# Altium footprint library IMR_LIB_PCB.PcbLib: 119 footprints (part 3 of 8)
Each footprint in its own frame and in the unit in brackets; x right, y up, seen from the top. Pads: shape width x height; smd on the part's side, far side on the other; paste and mask are expansions set on the pad; w line width, h text height; cw(c..) or ccw(c..) is an arc to the next point about the centre after c.
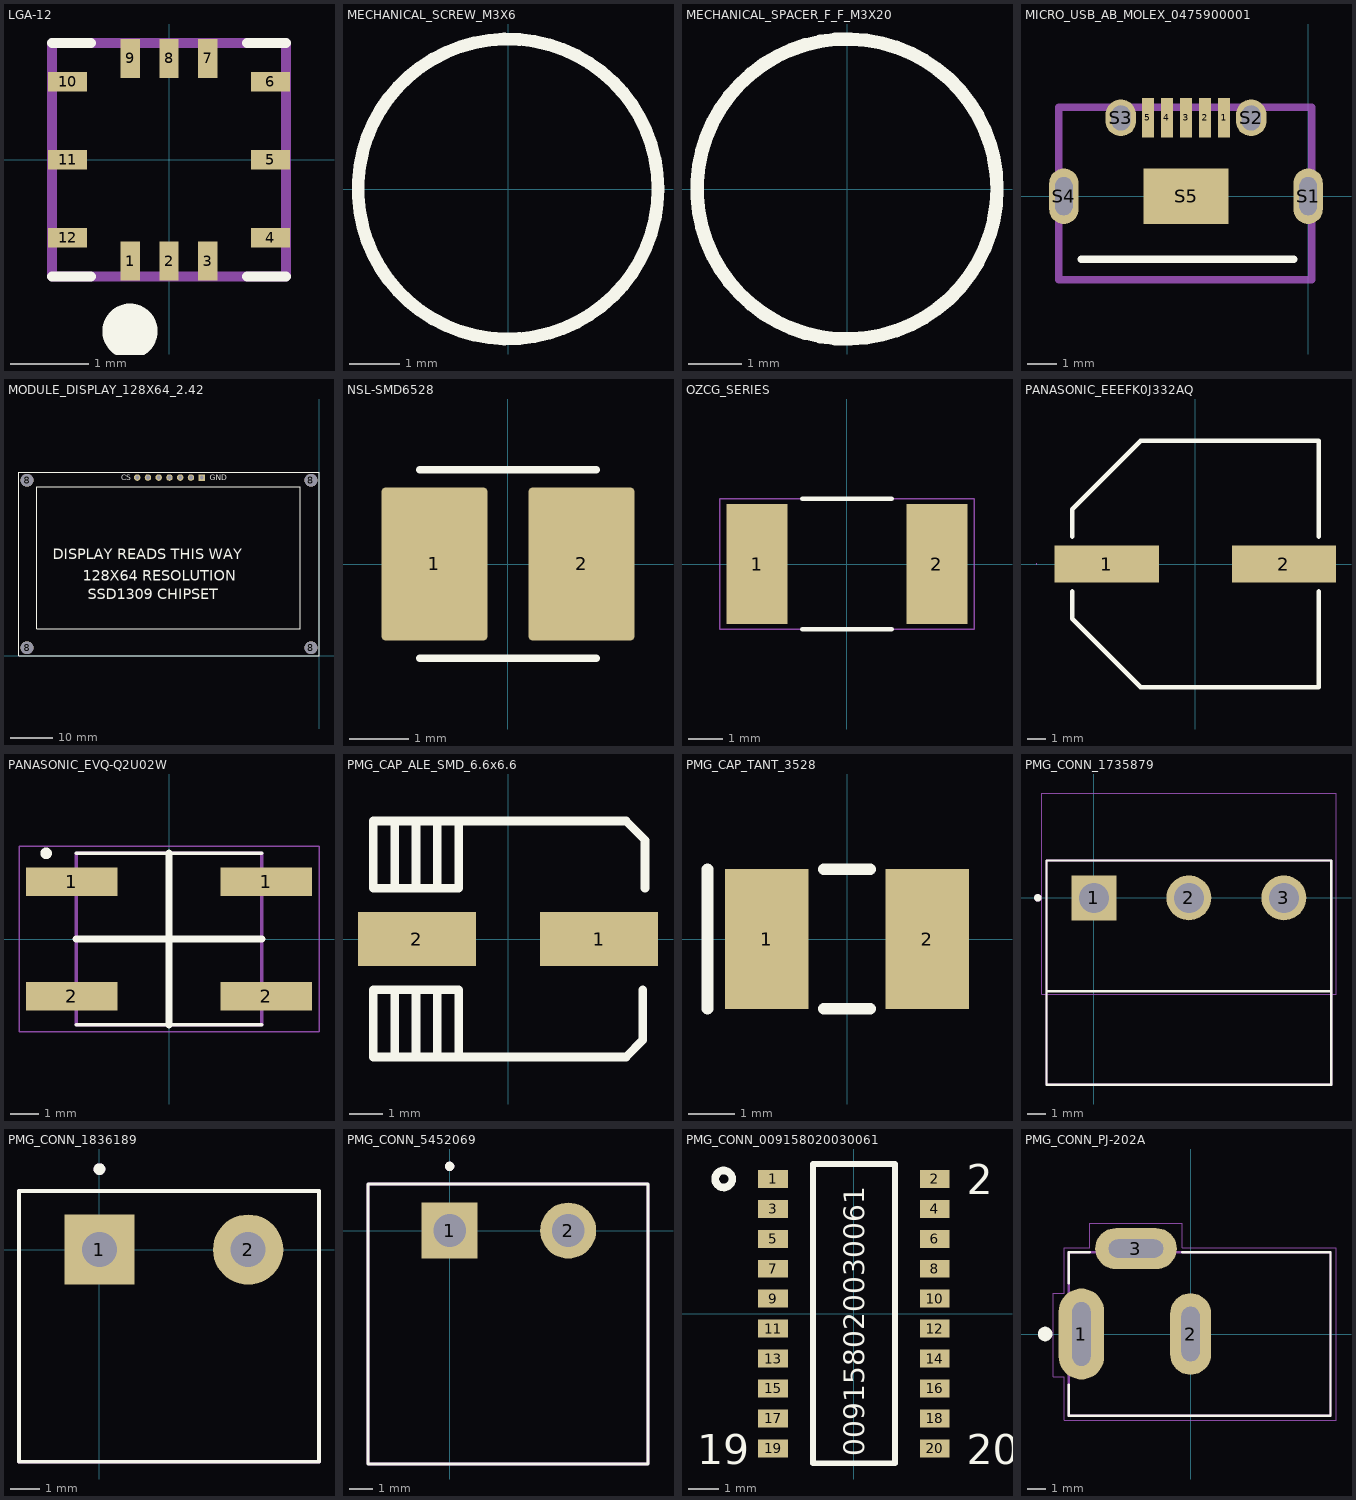
[diagram p2: the footprints below, top view; thin cyan lines are the x and y axes]

## LGA-12 [mm] "RENESAS ZMOD4510 12-LGA PACKAGE"
height 0.77
pads (12):
  rect 0.25x0.5 smd: 1(-0.5,-1.3) 2(0,-1.3) 3(0.5,-1.3) 7(0.5,1.3) 8(0,1.3) 9(-0.5,1.3)
  rect 0.5x0.25 smd: 4(1.3,-1) 5(1.3,0) 6(1.3,1) 10(-1.3,1) 11(-1.3,0) 12(-1.3,-1)
Top Overlay:
  circle w0.508: c-0.5,-2.2 r0.1
  lines w0.127: -1.5,-1.5 -1,-1.5 ; -1.5,1.5 -1,1.5 ; 1,-1.5 1.5,-1.5 ; 1,1.5 1.5,1.5
3D Top:
  lines w0.127: -1.5,-1.5 -1.5,1.5 1.5,1.5 1.5,-1.5 -1.5,-1.5
3D body: height 0.64, standoff 0.13, extent -1.4,-1.4 1.4,1.4
3D body: height 0.13, standoff 0, extent -1.5,-1.5 1.5,1.5

## MECHANICAL_SCREW_M3X6 [mm] "M3X6 PAN HEAD SCREW - WIDTH 5.5mm"
height 8
Top Overlay:
  circle w0.254: c0,0 r3
3D body: height 1.8, standoff -6, extent -2.65,-2.65 2.65,2.65

## MECHANICAL_SPACER_F_F_M3X20 [mm] "M3X20 SPACER FEMALE TO FEMALE MAX WIDTH 5.2mm"
height 20
Top Overlay:
  circle w0.254: c0,0 r2.828
3D body: height 20.1, standoff 0.1, extent -2.75,-3.16 2.75,3.16

## MICRO_USB_AB_MOLEX_0475900001 [mm] "MICRO USB AB MOLEX 0475900001"
height 0.6
pads (10):
  rect 0.4x1.35 smd: 1(-2.875,2.675) 2(-3.525,2.675) 3(-4.175,2.675) 4(-4.825,2.675) 5(-5.475,2.675)
  oval 1x1.9 hole 0.6 slot 1.3 at 90 deg: S1(0,0) S4(-8.35,0)
  oval 1.05x1.25 hole 0.65 slot 0.85 at 90 deg: S2(-1.95,2.675) S3(-6.4,2.675)
  rect 2.9x1.9 smd: S5(-4.175,0)
Top Overlay:
  lines w0.254: -7.75,-2.15 -0.5,-2.15
Courtyard Top:
  lines w0.254: -8.525,-2.859 0.125,-2.859 0.125,3.034 -8.525,3.034 -8.525,-2.859
3D body: height 2.76, standoff -0.55, extent -8.5,-2.947 0.15,2.947

## MODULE_DISPLAY_128X64_2.42 [mil] "DISPLAY"
height 150
pads (11):
  rect 60x60 hole 35: 1(-1091.34,1658.66)
  round 60 hole 35: 2(-1191.34,1658.66) 3(-1291.34,1658.66) 4(-1391.34,1658.66) 5(-1491.34,1658.66) 6(-1591.34,1658.66) 7(-1691.34,1658.66)
  round 120 hole 120 unplated: 8(-2716.34,75) 8(-2716.34,1633.66) 8(-75,75) 8(-75,1633.66)
Top Overlay:
  lines w10: -2791.34,0 0,0 0,1708.66 -2791.34,1708.66 -2791.34,0 ; -2625,250 -175,250 -175,1575 -2625,1575 -2625,250
  text "CS" at -1841.34,1633.66 h50
  text "GND" at -1016.34,1633.66 h50
  text "DISPLAY READS THIS WAY" at -2475,900 h100
  text "128X64 RESOLUTION" at -2200,700 h100
  text "SSD1309 CHIPSET" at -2150,525 h100
3D body: height 65, standoff 0, extent -2791.34,0 0,1708.66
3D body: height 165, standoff 65, extent -2625,50 -175,1575
3D body: height 166, standoff 165, extent -2600,250 -200,1550

## NSL-SMD6528 [mm] "Advanced Photonix NSL-SMD6528"
height 0.7
pads (2):
  rrect7% 1.8x2.6 smd: 1(-1.25,0) 2(1.25,0)
Top Overlay:
  lines w0.127: -1.5,-1.6 1.5,-1.6 ; -1.5,1.6 1.5,1.6
3D body: height 1, standoff 0, extent -1.26,-1.26 1.26,1.26
3D body: height 1, standoff 0, extent 1.26,-1.26 1.89,1.26
3D body: height 1, standoff 0, extent -1.89,-1.26 -1.26,1.26

## OZCG_SERIES [mm] "OZCG PTC IN SM 1812 PACKAGE"
height 0.3
pads (2):
  rect 1.78x3.5 smd: 1(-2.615,0) 2(2.615,0)
Top Overlay:
  lines w0.127: -1.3,-1.9 1.3,-1.9 ; -1.3,1.9 1.3,1.9
Courtyard Top:
  lines w0.05: -3.7,-1.9 -3.7,1.9 3.7,1.9 3.7,-1.9 -3.7,-1.9
3D body: height 0.9, standoff 0, extent -2.25,-1.6 2.25,1.6

## PANASONIC_EEEFK0J332AQ [mm] "SMD 14.00mm Height"
height 14
pads (2):
  rect 5.7x2 smd: 1(-4.85,0) 2(4.85,0)
Top Overlay:
  lines w0.254: -6.75,-1.505 -6.75,-3 -3,-6.75 6.75,-6.75 6.75,-1.505 ; -6.75,1.505 -6.75,3 ; 6.75,1.505 6.75,6.75 -3,6.75 ; -6.75,3 -3,6.75 ; -6.75,3 -3,6.75
Mechanical 22:
  lines w0.05: -8.725,0 cw(c-8.7,0) -8.675,0 cw(c-8.7,0) -8.725,0
  lines w0.2: -6.75,-3 -3,-6.75 6.75,-6.75 6.75,-3 ; -6.75,3 -3,6.75 6.75,6.75 6.75,3
3D body: height 13.5, standoff 0, extent -7.45,-6.75 7.45,6.75

## PANASONIC_EVQ-Q2U02W [mm] "SWITCH"
height 2.25
pads (4):
  rect 3.2x1 smd: 1(-3.4,2) 1(3.4,2) 2(-3.4,-2) 2(3.4,-2)
Top Overlay:
  circle w0.2: c-4.3,3 r0.1
  lines w0.127: -3.25,-3 3.25,-3 ; -3.25,3 3.25,3
  lines w0.254: -3.25,0 3.25,0 ; 0,-3 0,3
3D Top:
  lines w0.127: -3.25,-3 -3.25,3 3.25,3 3.25,-3 -3.25,-3
Courtyard Top:
  lines w0.05: -5.25,-3.25 -5.25,3.25 5.25,3.25 5.25,-3.25 -5.25,-3.25
3D body: height 1.8, standoff 0, extent -3.25,-3 3.25,3
3D body: height 2.3, standoff 1.8, extent -1.9,-1.897 1.9,1.897

## PMG_CAP_ALE_SMD_6.6x6.6 [mm] "CAP_ALE BODY SIZE 6.6mm x 6.6mm 3.9mm Tall"
height 4
pads (2):
  rect 3.5x1.6 smd: 1(2.7,0) 2(-2.7,0)
Top Overlay:
  lines w0.254: -4,-2.04 -4,-1.913 ; -4,1.913 -4,2.04 ; -3.365,-3.5 -3.365,-1.5 ; -3.365,1.5 -3.365,3.5 ; -2.73,-3.5 -2.73,-1.5 ; -2.73,1.5 -2.73,3.5 ; -2.095,-3.5 -2.095,-1.5 ; -2.095,1.5 -2.095,3.5 ; -1.46,-3.5 -1.46,-1.5 -4,-1.5 -4,-3.5 3.5,-3.5 4,-3 4,-1.5 ; -1.46,3.5 -1.46,1.5 -4,1.5 -4,3.5 3.5,3.5 4.065,2.935 4.065,1.5
3D body: height 3.91, standoff 0, extent -3.52,-3.3 3.48,3.3

## PMG_CAP_TANT_3528 [mm] "TANTALUM CAPACITOR 3528"
height 1.9
pads (2):
  rect 1.8x3 smd: 1(-1.725,0) 2(1.725,0)
Top Overlay:
  lines w0.254: -3,-1.5 -3,1.5 ; -0.5,-1.5 0.5,-1.5 ; -0.5,1.5 0.5,1.5
3D body: height 2.03, standoff 0, extent -1.85,-1.465 1.85,1.465

## PMG_CONN_1735879 [mm] "TERM BLOCK HDR 3POS 90DEG 5.08MM"
height 12.45
pads (3):
  rect 2.4x2.4 hole 1.6: 1(0,0)
  round 2.4 hole 1.6: 2(5.08,0) 3(10.16,0)
Top Overlay:
  circle w0.2: c-3,0 r0.1
  lines w0.127: -2.54,-5 12.7,-5 ; -2.54,-10 -2.54,2 12.7,2 12.7,-10 -2.54,-10
3D Top:
  circle w0.2: c-3,0 r0.1
  lines w0.127: -2.54,-10 -2.54,2 12.7,2 12.7,-10 -2.54,-10
Courtyard Top:
  lines w0.05: -2.79,-5.15 12.95,-5.15 12.95,5.6 -2.79,5.6 -2.79,-5.15
3D body: height 12.4, standoff -3.5, extent -2.54,-10.001 12.7,2.001

## PMG_CONN_1836189 [mm] "TERM BLOCK HDR 3POS 90DEG 5.08MM GREEN"
height 7.25
pads (2):
  rect 2.4x2.4 hole 1.2: 1(0,0)
  round 2.4 hole 1.2: 2(5.08,0)
Top Overlay:
  circle w0.2: c0,2.75 r0.1
  lines w0.127: -2.75,-7.25 7.5,-7.25 7.5,2 -2.75,2 -2.75,-7.25
3D Top:
  circle w0.2: c0,2.75 r0.1
  lines w0.127: -2.75,-7.25 7.5,-7.25 7.5,2 -2.75,2 -2.75,-7.25
Courtyard Top:
  lines w0.05: -2.75,-7.25 -2.75,2 7.5,2 7.5,-7.25 -2.75,-7.25
3D body: height 7.25, standoff -3.5, extent -2.66,-7.35 7.5,1.85

## PMG_CONN_5452069 [mm] "TERM BLOCK HDR 3POS 90DEG 5.08MM BLACK"
height 8.57
pads (2):
  rect 2.4x2.4 hole 1.4: 1(0,0)
  round 2.4 hole 1.4: 2(5.08,0)
Top Overlay:
  circle w0.2: c0,2.75 r0.1
  lines w0.127: -3.5,-10 8.5,-10 8.5,2 -3.5,2 -3.5,-10
3D Top:
  circle w0.2: c0,2.75 r0.1
  lines w0.127: -3.5,-10 8.5,-10 8.5,2 -3.5,2 -3.5,-10
Courtyard Top:
  lines w0.05: -3.5,-10 -3.5,2 8.5,2 8.5,-10 -3.5,-10
3D body: height 8.7, standoff -3.4, extent -3.58,-10.002 8.58,2

## PMG_CONN_009158020030061 [mm] "AVX CONN 009158020030061"
height 2.8
pads (20):
  rect 1x0.6 smd: 1(-2.7,4.5) 2(2.7,4.5) 3(-2.7,3.5) 4(2.7,3.5) 5(-2.7,2.5) 6(2.7,2.5) 7(-2.7,1.5) 8(2.7,1.5) 9(-2.7,0.5) 10(2.7,0.5) 11(-2.7,-0.5) 12(2.7,-0.5) 13(-2.7,-1.5) 14(2.7,-1.5) 15(-2.7,-2.5) 16(2.7,-2.5) 17(-2.7,-3.5) 18(2.7,-3.5) 19(-2.7,-4.5) 20(2.7,-4.5)
Top Overlay:
  circle w0.254: c-4.351,4.5 r0.284
  lines w0.2: -1.365,-5 1.365,-5 1.365,5 -1.365,5 -1.365,-5
  text "19" at -5.24,-5.025 h1
  text "20" at 3.777,-5.025 h1
  text "2" at 3.777,3.992 h1
  text "009158020030061" at 0.348,-4.771 h0.68
3D body: height 2.8, standoff 0, extent -2.7,-5.152 2.7,5.135
3D body: height 3, standoff 2.8, extent -2.525,4.246 -0.874,4.754
3D body: height 3, standoff 2.8, extent 0.92,3.246 2.571,3.754
3D body: height 3, standoff 2.8, extent 0.92,2.246 2.571,2.754
3D body: height 3, standoff 2.8, extent 0.92,1.246 2.571,1.754
3D body: height 3, standoff 2.8, extent 0.92,0.246 2.571,0.754
3D body: height 3, standoff 2.8, extent 0.92,-0.754 2.571,-0.246
3D body: height 3, standoff 2.8, extent 0.92,-1.754 2.571,-1.246
3D body: height 3, standoff 2.8, extent 0.92,-2.754 2.571,-2.246
3D body: height 3, standoff 2.8, extent 0.92,-3.754 2.571,-3.246
3D body: height 3, standoff 2.8, extent -2.525,3.246 -0.874,3.754
3D body: height 3, standoff 2.8, extent -2.525,2.246 -0.874,2.754
3D body: height 3, standoff 2.8, extent -2.525,1.246 -0.874,1.754
3D body: height 3, standoff 2.8, extent -2.525,0.246 -0.874,0.754
3D body: height 3, standoff 2.8, extent -2.525,-0.754 -0.874,-0.246
3D body: height 3, standoff 2.8, extent -2.525,-1.754 -0.874,-1.246
3D body: height 3, standoff 2.8, extent -2.525,-2.754 -0.874,-2.246
3D body: height 3, standoff 2.8, extent -2.525,-3.754 -0.874,-3.246
3D body: height 3, standoff 2.8, extent -2.525,-4.754 -0.874,-4.246
3D body: height 3, standoff 2.8, extent 0.92,4.246 2.571,4.754
3D body: height 3, standoff 2.8, extent 0.92,-4.754 2.571,-4.246

## PMG_CONN_PJ-202A [mm] "CUI PJ-202A CONNECTOR"
height 11
pads (3):
  oval 2.5x5 hole 1 slot 3.5 at 90 deg: 1(-6,0)
  oval 2.25x4.5 hole 1 slot 3 at 90 deg: 2(0,0)
  oval 4.5x2.25 hole 1 slot 3 at 0 deg: 3(-3,4.7)
Top Overlay:
  circle w0.4: c-8,0 r0.2
  lines w0.127: -6.7,-2.794 -6.7,-4.5 7.7,-4.5 7.7,4.5 -0.45,4.5 ; -6.7,2.794 -6.7,4.5 -5.55,4.5
3D Top:
  lines w0.127: -6.7,-4.5 -6.7,4.5 7.7,4.5 7.7,-4.5 -6.7,-4.5
Courtyard Top:
  lines w0.05: -7.55,-2.35 -6.95,-2.35 -6.95,-4.75 8,-4.75 8,4.75 -0.45,4.75 -0.45,6.1 -5.55,6.1 -5.55,4.75 -6.95,4.75 -6.95,2.25 -7.55,2.25 -7.55,-2.35
3D body: height 11, standoff -3.5, extent -6.827,-4.701 7.573,4.699